# EAGLE library part XR-532AJ (library exar)
PULSE DETECTOR
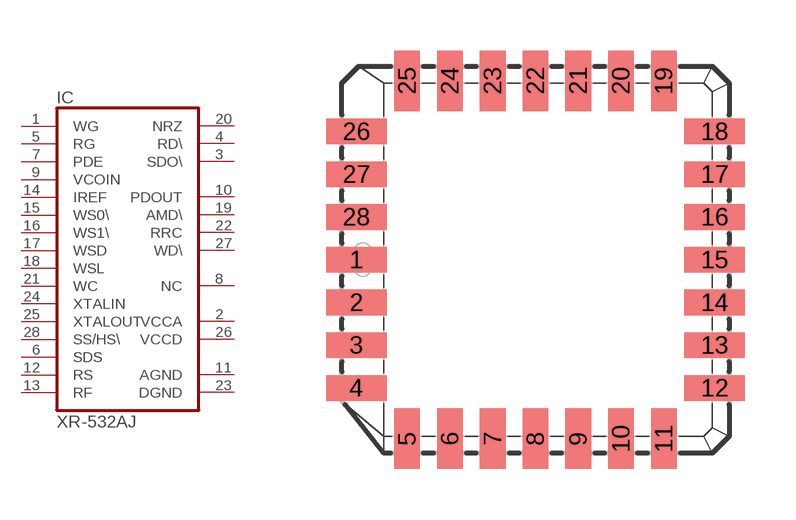
[diagram p83: symbol with the pads of PLCC28; footprint PLCC28]

Designator prefix IC

## XR-532AJ  [PLCC28]
1  WG  in
2  VCCA  pwr
3  SDO\
4  RD\
5  RG  in
6  SDS  in
7  PDE  in
8  NC  nc
9  VCOIN  in
10  PDOUT  out
11  AGND  pwr
12  RS  in
13  RF  in
14  IREF  in
15  WS0\  in
16  WS1\  in
17  WSD  in
18  WSL  in
19  AMD\  out
20  NRZ
21  WC  in
22  RRC  out
23  DGND  pwr
24  XTALIN  in
25  XTALOUT  in
26  VCCD  pwr
27  WD\  out
28  SS/HS\  in

## Footprint PLCC28 (pad centres in mm)
Plastic Leaded Chip Carrier
smd 1.8 x 0.76: 1 -5.32,0; 2 -5.32,-1.27; 3 -5.32,-2.54; 4 -5.32,-3.81; 12 5.32,-3.81; 13 5.32,-2.54; 14 5.32,-1.27; 15 5.32,0; 16 5.32,1.27; 17 5.32,2.54; 18 5.32,3.81; 26 -5.32,3.81; 27 -5.32,2.54; 28 -5.32,1.27
smd 0.76 x 1.8: 5 -3.81,-5.32; 6 -2.54,-5.32; 7 -1.27,-5.32; 8 0,-5.32; 9 1.27,-5.32; 10 2.54,-5.32; 11 3.81,-5.32; 19 3.81,5.32; 20 2.54,5.32; 21 1.27,5.32; 22 0,5.32; 23 -1.27,5.32; 24 -2.54,5.32; 25 -3.81,5.32